# Altium footprint library MountingHoles.PcbLib: 7 footprints
Each footprint in its own frame and in the unit in brackets; x right, y up, seen from the top. Pads: shape width x height; smd on the part's side, far side on the other; paste and mask are expansions set on the pad; w line width, h text height; cw(c..) or ccw(c..) is an arc to the next point about the centre after c.
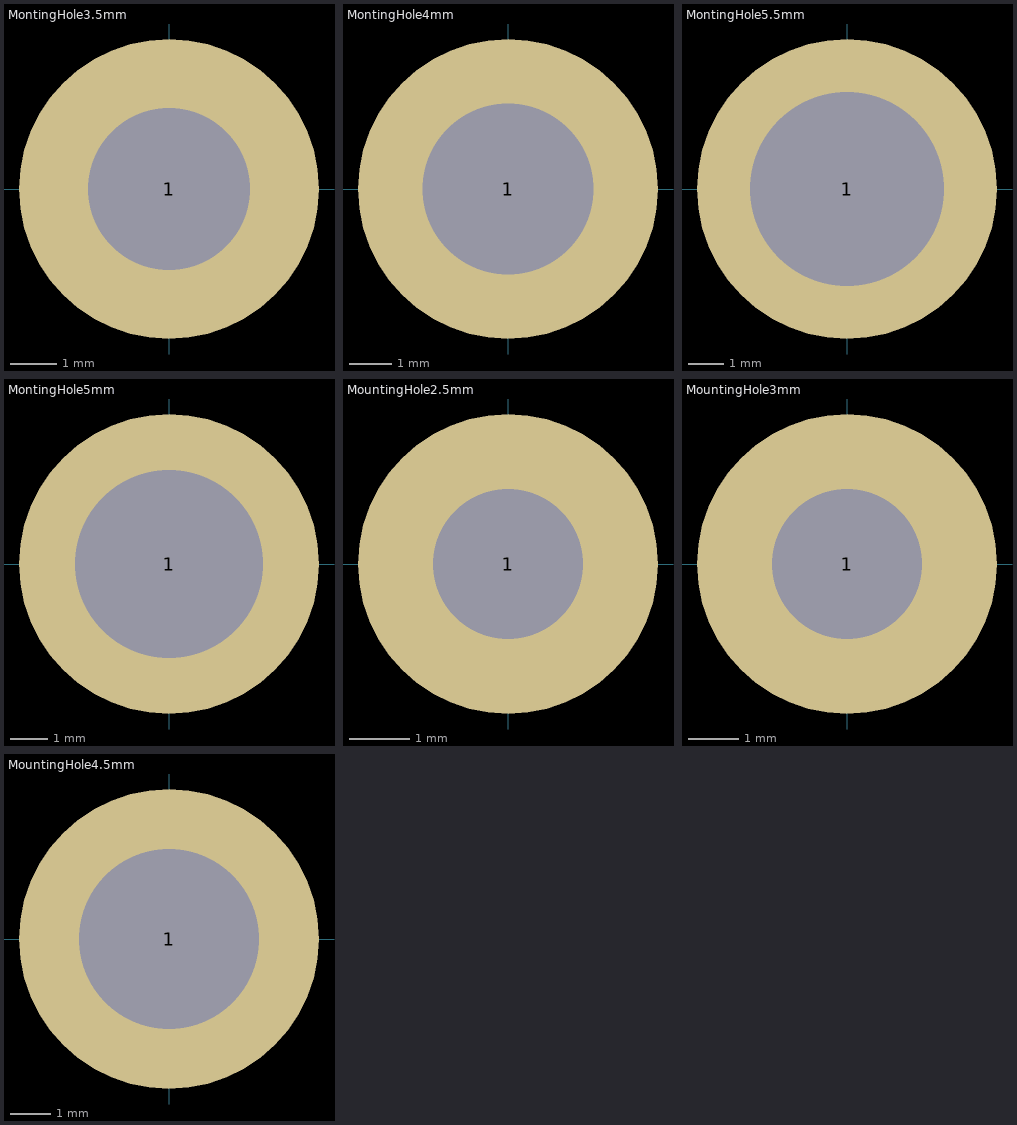
[diagram p0: the footprints below, top view; thin cyan lines are the x and y axes]

## MontingHole3.5mm [mm]
pads (1):
  round 6.5 hole 3.5: 1(0,0)

## MontingHole4mm [mm]
pads (1):
  round 7 hole 4: 1(0,0)

## MontingHole5.5mm [mm]
pads (1):
  round 8.5 hole 5.5: 1(0,0)

## MontingHole5mm [mm]
pads (1):
  round 8 hole 5: 1(0,0)

## MountingHole2.5mm [mm]
pads (1):
  round 5 hole 2.5: 1(0,0)

## MountingHole3mm [mm]
pads (1):
  round 6 hole 3: 1(0,0)

## MountingHole4.5mm [mm]
pads (1):
  round 7.5 hole 4.5: 1(0,0)